# EAGLE library part FM25V01A-GTR (library FM25V01A-GTR)
CYPRESS SEMICONDUCTOR - FM25V01A-GTR - F-RAM, NON-VOL, 128KBIT, 40MHZ, SOIC-8 Source: Datasheet <https://componentsearchengine.com/Datasheets/1/FM25V01A-GTR.pdf>
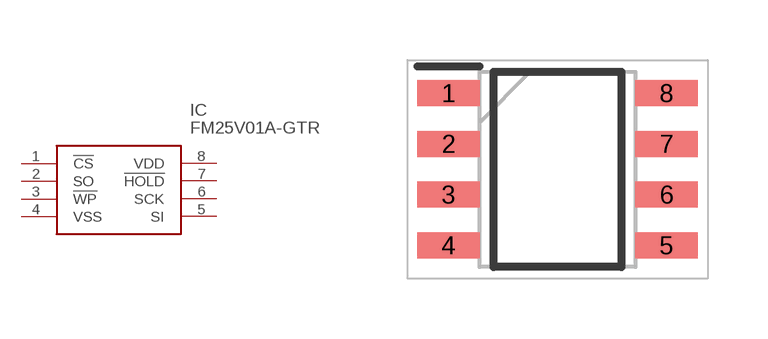
[diagram p0: symbol with the pads of SOIC127P602X173-8N; footprint SOIC127P602X173-8N]

Designator prefix IC

## FM25V01A-GTR (Description: CYPRESS SEMICONDUCTOR - FM25V01A-GTR - F-RAM, NON-VOL, 128KBIT, 40MHZ, SOIC-8; Height: 1.727mm; Manufacturer_Name: Cypress Semiconductor; Manufacturer_Part_Number: FM25V01A-GTR; Mouser_Part_Number: 727-FM25V01A-GTR; Mouser_Price-Stock: https://www.mouser.com/Search/Refine.aspx?Keyword=727-FM25V01A-GTR)  [SOIC127P602X173-8N]
1  !CS
2  SO
3  !WP
4  VSS
5  SI
6  SCK
7  !HOLD
8  VDD

## Footprint SOIC127P602X173-8N (pad centres in mm)
FM25V01A-GTR
smd 1.551 x 0.65: 1 -2.725,1.905; 2 -2.725,0.635; 3 -2.725,-0.635; 4 -2.725,-1.905; 5 2.725,-1.905; 6 2.725,-0.635; 7 2.725,0.635; 8 2.725,1.905